# EAGLE library part L5970D (library omcSupplyRegulator)
STMicroelectronics - L5970D - Up to 1A step down switching regulator Up to 1A output current Operating input voltage from 4.4V to 36V 3.3V / (±2%) reference voltage Output voltage adjustable from 1.2V to 35V Low dropout operation: 100% duty cycle 250KHz Internally fixed frequency Voltage feedforward Zero load current operation Internal current limiting Inhibit for zero current consumption Synchronization Protection against feedback disconnection Thermal shutdown STM Datasheet <http://www.st.com/web/en/resource/technical/document/datasheet/CD00002173.pdf> Reichelt Datasheet <http://cdn-reichelt.de/documents/datenblatt/A200/DS_5970D.pdf> Distributor Reichelt: L 5970 D Conrad: 1185187 - 62 Digi-Key:
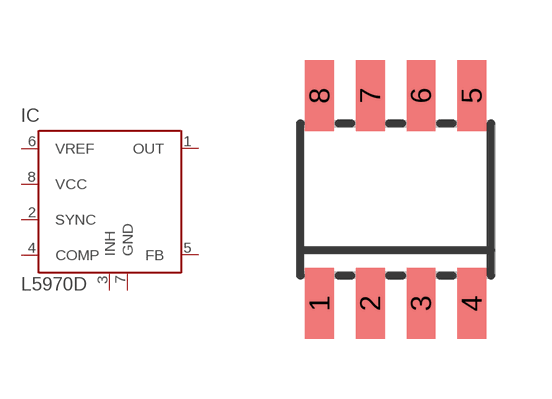
[diagram p5: symbol with the pads of SOIC8; footprint SOIC8]

Designator prefix IC

## L5970D (DIST#CONRAD#: 1185187 - 62; DIST#REICHELT#: L 5970 D; VALUE: L5790D; VENDOR#: STM#L5970D013TR)  [SOIC8]
1  OUT  out
2  SYNC  pas
3  INH  pas
4  COMP
5  FB  pas
6  VREF  out
7  GND  pwr
8  VCC  pwr

## Footprint SOIC8 (pad centres in mm)
SOIC8 SMD 5mm×6.2mm Wikipedia <https://en.wikipedia.org/wiki/Small_Outline_Integrated_Circuit>
smd 0.72 x 1.78: 1 -1.905,-2.6; 2 -0.635,-2.6; 3 0.635,-2.6; 4 1.905,-2.6; 5 1.905,2.6; 6 0.635,2.6; 7 -0.635,2.6; 8 -1.905,2.6